# Altium schematic symbol library CN-H60200801000G.Schlib: 1 symbol
Pins are listed as number, name and electrical type; pins without a type are passive.

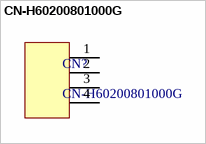
[diagram p0: symbol CN-H60200801000G]

## CN-H60200801000G
designator CN?
2 pin Power connector
pins: 1, 2, 3, 4